# EAGLE library part M16C/21(100PIN) (library MITSUBISHI)
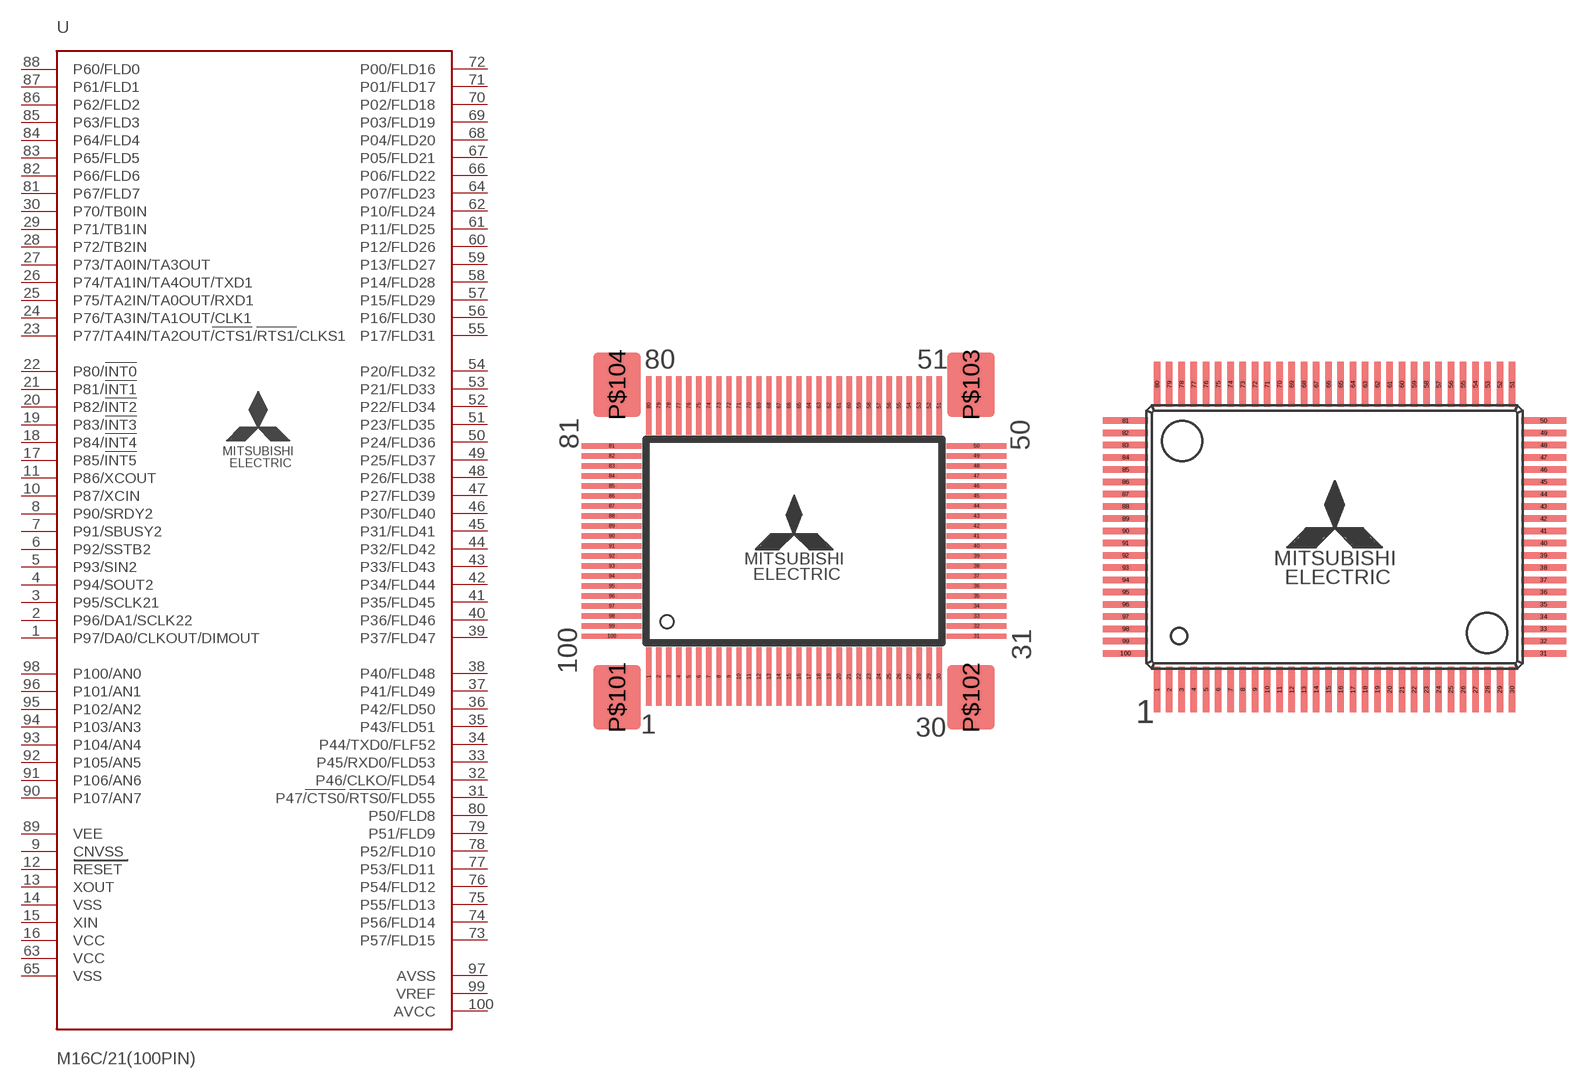
[diagram p3: symbol with the pads of 100P6S-A(SOCKET); footprints 100P6S-A(SOCKET), 100P6S-A]

Designator prefix -

## M16C/21(100PIN)2  [100P6S-A(SOCKET)]
1  P97/DA0/CLKOUT/DIMOUT
2  P96/DA1/SCLK22
3  P95/SCLK21
4  P94/SOUT2
5  P93/SIN2
6  P92/SSTB2
7  P91/SBUSY2
8  P90/SRDY2
9  CNVSS  in
10  P87/XCIN
11  P86/XCOUT
12  RESET  in
13  XOUT  out
14  VSS  pwr
15  XIN  in
16  VCC  pwr
17  P85/INT5  in
18  P84/INT4
19  P83/INT3
20  P82/INT2
21  P81/INT1
22  P80/INT0
23  P77/TA4IN/TA2OUT/CTS1/RTS1/CLKS1
24  P76/TA3IN/TA1OUT/CLK1
25  P75/TA2IN/TA0OUT/RXD1
26  P74/TA1IN/TA4OUT/TXD1
27  P73/TA0IN/TA3OUT
28  P72/TB2IN
29  P71/TB1IN
30  P70/TB0IN
31  P47/CTS0/RTS0/FLD55
32  P46/CLKO/FLD54
33  P45/RXD0/FLD53
34  P44/TXD0/FLF52
35  P43/FLD51
36  P42/FLD50
37  P41/FLD49
38  P40/FLD48
39  P37/FLD47
40  P36/FLD46
41  P35/FLD45
42  P34/FLD44
43  P33/FLD43
44  P32/FLD42
45  P31/FLD41
46  P30/FLD40
47  P27/FLD39  out
48  P26/FLD38  out
49  P25/FLD37  out
50  P24/FLD36  out
51  P23/FLD35  out
52  P22/FLD34  out
53  P21/FLD33  out
54  P20/FLD32  out
55  P17/FLD31  out
56  P16/FLD30  out
57  P15/FLD29  out
58  P14/FLD28  out
59  P13/FLD27  out
60  P12/FLD26  out
61  P11/FLD25  out
62  P10/FLD24  out
63  VCC  pwr
64  P07/FLD23  out
65  VSS  pwr
66  P06/FLD22  out
67  P05/FLD21  out
68  P04/FLD20  out
69  P03/FLD19  out
70  P02/FLD18  out
71  P01/FLD17  out
72  P00/FLD16  out
73  P57/FLD15  out
74  P56/FLD14  out
75  P55/FLD13  out
76  P54/FLD12  out
77  P53/FLD11  out
78  P52/FLD10  out
79  P51/FLD9  out
80  P50/FLD8  out
81  P67/FLD7  out
82  P66/FLD6  out
83  P65/FLD5  out
84  P64/FLD4  out
85  P63/FLD3  out
86  P62/FLD2  out
87  P61/FLD1  out
88  P60/FLD0  out
89  VEE  in
90  P107/AN7
91  P106/AN6
92  P105/AN5
93  P104/AN4
94  P103/AN3
95  P102/AN2
96  P101/AN1
97  AVSS  in
98  P100/AN0
99  VREF  in
100  AVCC  in

## M16C/21(100PIN)1  [100P6S-A]
Pads as for 100P6S-A(SOCKET)

## Footprint 100P6S-A(SOCKET) (pad centres in mm)
smd 0.35 x 3.8: 1 -9.425,-8.8; 2 -8.775,-8.8; 3 -8.125,-8.8; 4 -7.475,-8.8; 5 -6.825,-8.8; 6 -6.175,-8.8; 7 -5.525,-8.8; 8 -4.875,-8.8; 9 -4.225,-8.8; 10 -3.575,-8.8; 11 -2.925,-8.8; 12 -2.275,-8.8; 13 -1.625,-8.8; 14 -0.975,-8.8; 15 -0.325,-8.8; 16 0.325,-8.8; 17 0.975,-8.8; 18 1.625,-8.8; 19 2.275,-8.8; 20 2.925,-8.8; 21 3.575,-8.8; 22 4.225,-8.8; 23 4.875,-8.8; 24 5.525,-8.8; 25 6.175,-8.8; 26 6.825,-8.8; 27 7.475,-8.8; 28 8.125,-8.8; 29 8.775,-8.8; 30 9.425,-8.8; 51 9.425,8.8; 52 8.775,8.8; 53 8.125,8.8; 54 7.475,8.8; 55 6.825,8.8; 56 6.175,8.8; 57 5.525,8.8; 58 4.875,8.8; 59 4.225,8.8; 60 3.575,8.8; 61 2.925,8.8; 62 2.275,8.8; 63 1.625,8.8; 64 0.975,8.8; 65 0.325,8.8; 66 -0.325,8.8; 67 -0.975,8.8; 68 -1.625,8.8; 69 -2.275,8.8; 70 -2.925,8.8; 71 -3.575,8.8; 72 -4.225,8.8; 73 -4.875,8.8; 74 -5.525,8.8; 75 -6.175,8.8; 76 -6.825,8.8; 77 -7.475,8.8; 78 -8.125,8.8; 79 -8.775,8.8; 80 -9.425,8.8
smd 3.9 x 0.35: 31 11.85,-6.175; 32 11.85,-5.525; 33 11.85,-4.875; 34 11.85,-4.225; 35 11.85,-3.575; 36 11.85,-2.925; 37 11.85,-2.275; 38 11.85,-1.625; 39 11.85,-0.975; 40 11.85,-0.325; 41 11.85,0.325; 42 11.85,0.975; 43 11.85,1.625; 44 11.85,2.275; 45 11.85,2.925; 46 11.85,3.575; 47 11.85,4.225; 48 11.85,4.875; 49 11.85,5.525; 50 11.85,6.175; 81 -11.85,6.175; 82 -11.85,5.525; 83 -11.85,4.875; 84 -11.85,4.225; 85 -11.85,3.575; 86 -11.85,2.925; 87 -11.85,2.275; 88 -11.85,1.625; 89 -11.85,0.975; 90 -11.85,0.325; 91 -11.85,-0.325; 92 -11.85,-0.975; 93 -11.85,-1.625; 94 -11.85,-2.275; 95 -11.85,-2.925; 96 -11.85,-3.575; 97 -11.85,-4.225; 98 -11.85,-4.875; 99 -11.85,-5.525; 100 -11.85,-6.175
smd 3.1 x 4.2: P$101 -11.5,-10.15; P$102 11.5,-10.15; P$103 11.5,10.15; P$104 -11.5,10.15

## Footprint 100P6S-A (pad centres in mm)
smd 0.35 x 2.4: 1 -9.425,-8.1; 2 -8.775,-8.1; 3 -8.125,-8.1; 4 -7.475,-8.1; 5 -6.825,-8.1; 6 -6.175,-8.1; 7 -5.525,-8.1; 8 -4.875,-8.1; 9 -4.225,-8.1; 10 -3.575,-8.1; 11 -2.925,-8.1; 12 -2.275,-8.1; 13 -1.625,-8.1; 14 -0.975,-8.1; 15 -0.325,-8.1; 16 0.325,-8.1; 17 0.975,-8.1; 18 1.625,-8.1; 19 2.275,-8.1; 20 2.925,-8.1; 21 3.575,-8.1; 22 4.225,-8.1; 23 4.875,-8.1; 24 5.525,-8.1; 25 6.175,-8.1; 26 6.825,-8.1; 27 7.475,-8.1; 28 8.125,-8.1; 29 8.775,-8.1; 30 9.425,-8.1; 51 9.425,8.1; 52 8.775,8.1; 53 8.125,8.1; 54 7.475,8.1; 55 6.825,8.1; 56 6.175,8.1; 57 5.525,8.1; 58 4.875,8.1; 59 4.225,8.1; 60 3.575,8.1; 61 2.925,8.1; 62 2.275,8.1; 63 1.625,8.1; 64 0.975,8.1; 65 0.325,8.1; 66 -0.325,8.1; 67 -0.975,8.1; 68 -1.625,8.1; 69 -2.275,8.1; 70 -2.925,8.1; 71 -3.575,8.1; 72 -4.225,8.1; 73 -4.875,8.1; 74 -5.525,8.1; 75 -6.175,8.1; 76 -6.825,8.1; 77 -7.475,8.1; 78 -8.125,8.1; 79 -8.775,8.1; 80 -9.425,8.1
smd 2.4 x 0.35: 31 11.1,-6.175; 32 11.1,-5.525; 33 11.1,-4.875; 34 11.1,-4.225; 35 11.1,-3.575; 36 11.1,-2.925; 37 11.1,-2.275; 38 11.1,-1.625; 39 11.1,-0.975; 40 11.1,-0.325; 41 11.1,0.325; 42 11.1,0.975; 43 11.1,1.625; 44 11.1,2.275; 45 11.1,2.925; 46 11.1,3.575; 47 11.1,4.225; 48 11.1,4.875; 49 11.1,5.525; 50 11.1,6.175; 81 -11.1,6.175; 82 -11.1,5.525; 83 -11.1,4.875; 84 -11.1,4.225; 85 -11.1,3.575; 86 -11.1,2.925; 87 -11.1,2.275; 88 -11.1,1.625; 89 -11.1,0.975; 90 -11.1,0.325; 91 -11.1,-0.325; 92 -11.1,-0.975; 93 -11.1,-1.625; 94 -11.1,-2.275; 95 -11.1,-2.925; 96 -11.1,-3.575; 97 -11.1,-4.225; 98 -11.1,-4.875; 99 -11.1,-5.525; 100 -11.1,-6.175